# EAGLE library part ATTINY (library Controls Library)
Atmel 8-bit AVR Microcontroller 2/4/8KB Programmable Flash 0-20 MHz @ 4.5-5.5V 10-bit ADC Datasheet <http://ww1.microchip.com/downloads/en/DeviceDoc/Atmel-2586-AVR-8-bit-Microcontroller-ATtiny25-ATtiny45-ATtiny85_Datasheet.pdf>
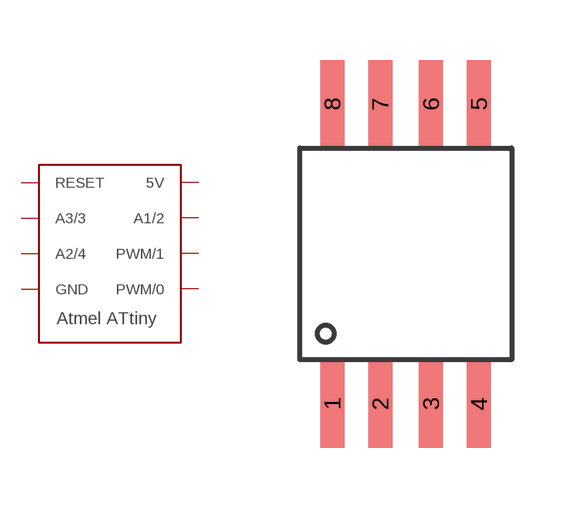
[diagram p14: symbol with the pads of 8S2; footprint 8S2]

Designator prefix -

## ATTINY  [8S2]
1  RESET
2  A3/3
3  A2/4
4  GND
5  PWM/0
6  PWM/1
7  A1/2
8  5V

## Footprint 8S2 (pad centres in mm)
smd 0.6 x 2.2: 1 -1.835,-3.75; 2 -0.635,-3.75; 3 0.635,-3.75; 4 1.835,-3.76; 5 1.835,3.75; 6 0.635,3.75; 7 -0.635,3.75; 8 -1.835,3.75